# Altium footprint library components.PcbLib: 14 footprints
Each footprint in its own frame and in the unit in brackets; x right, y up, seen from the top. Pads: shape width x height; smd on the part's side, far side on the other; paste and mask are expansions set on the pad; w line width, h text height; cw(c..) or ccw(c..) is an arc to the next point about the centre after c.
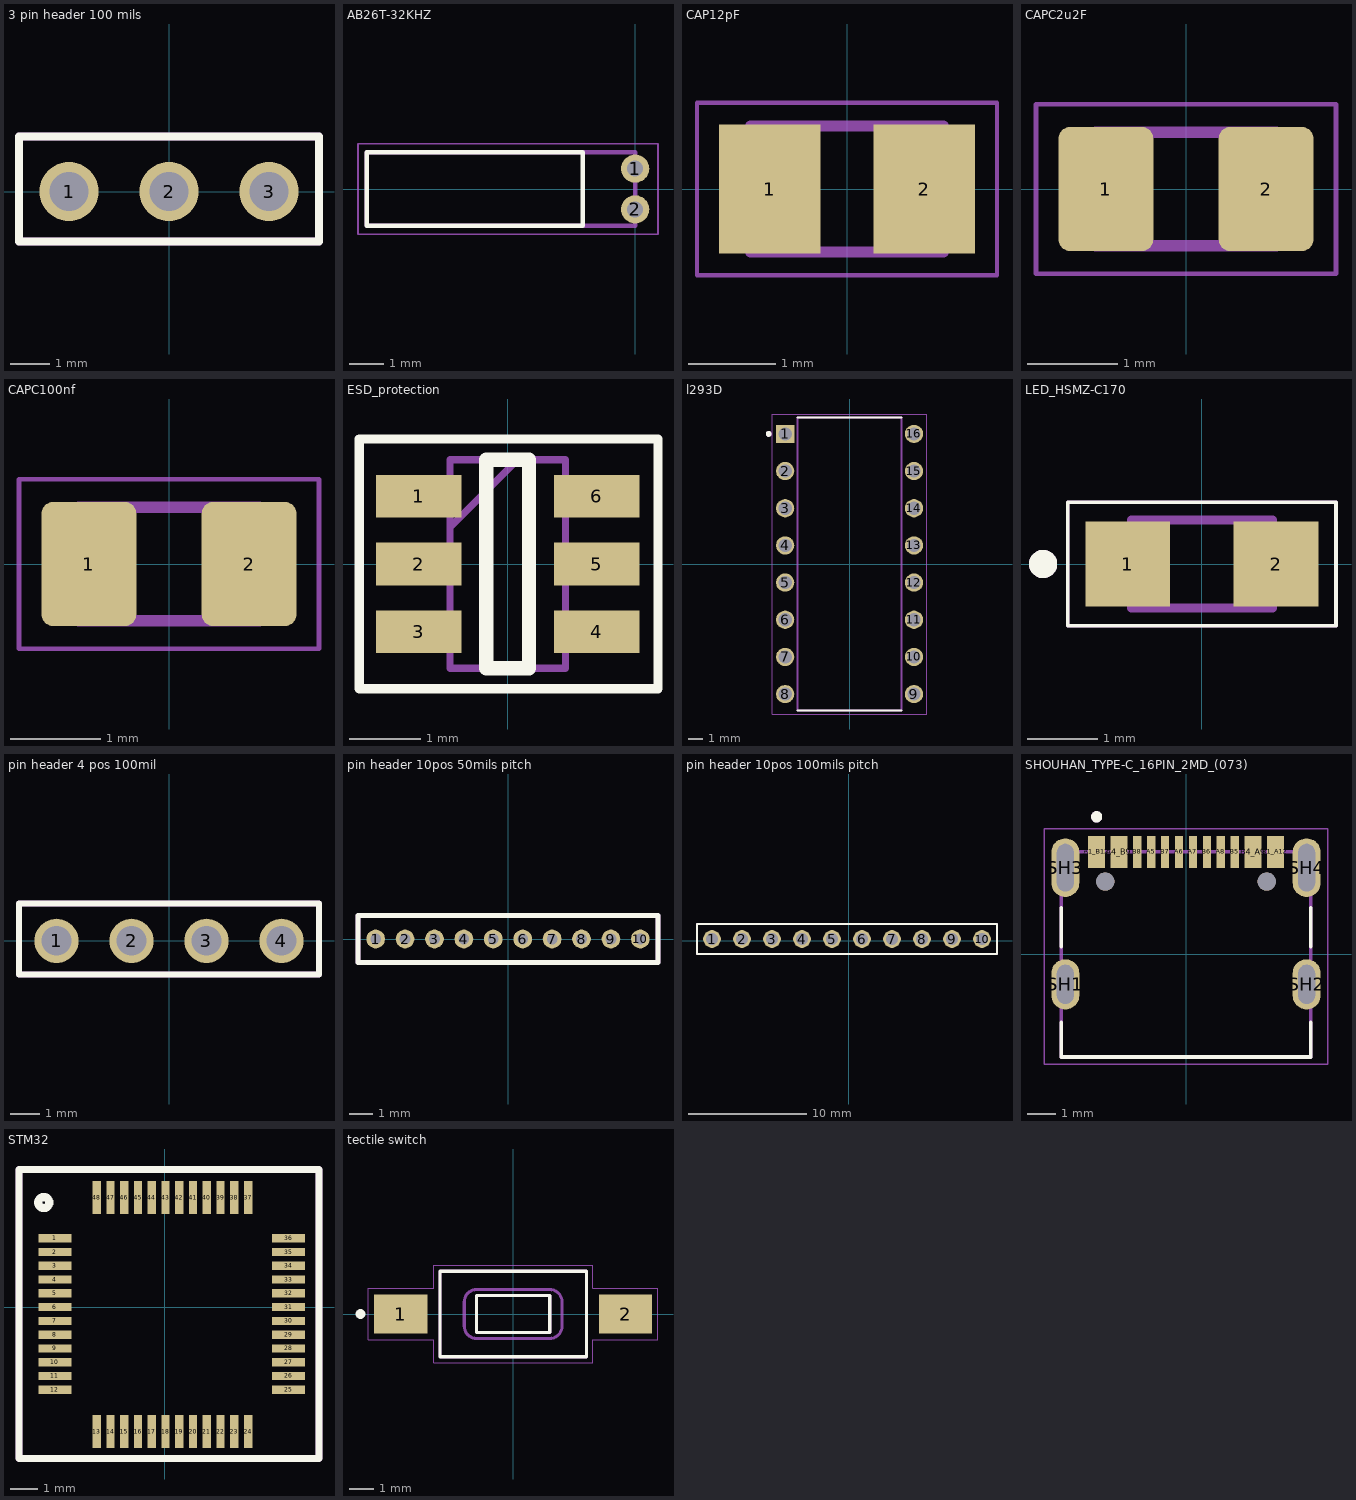
[diagram p0: the footprints below, top view; thin cyan lines are the x and y axes]

## 3 pin header 100 mils [mm]
pads (3):
  round 1.5 hole 1 mask+0.3: 1(-2.54,0) 2(0,0) 3(2.54,0)
Top Overlay:
  lines w0.2: -3.81,-1.27 -3.81,1.397 3.81,1.397 3.81,-1.27 -3.81,-1.27
Mechanical 13:
  lines w0.2: -3.81,-1.27 3.81,-1.27 3.81,1.397 -3.81,1.397 -3.81,-1.27
3D body "M20-9990346--3DModel-STEP-56544.STEP": height 8.74, standoff -3, extent -3.81,-1.27 3.81,1.27

## AB26T-32KHZ [mm]
height 2.1
pads (2):
  round 0.81 hole 0.46 mask+0.102: 1(0,0.585) 2(0,-0.585)
Top Overlay:
  lines w0.127: -7.7,-1.05 -1.5,-1.05 -1.5,1.05 -7.7,1.05 -7.7,-1.05
Mechanical 13:
  lines w0.127: -7.7,-1.05 0,-1.05 0,1.05 -7.7,1.05 -7.7,-1.05
Mechanical 15:
  lines w0.05: -7.95,-1.3 0.655,-1.3 0.655,1.3 -7.95,1.3 -7.95,-1.3
3D body "step_temp.STEP": height 2.1, standoff -3.78, extent -7.7,-1.05 0.129,1.05

## CAP12pF [mm]
pads (2):
  rect 1.16x1.47 smd: 1(-0.88,0) 2(0.88,0)
Mechanical 13:
  lines w0.127: -1.1,-0.72 -1.1,0.72 1.1,0.72 1.1,-0.72 -1.1,-0.72
Mechanical 15:
  lines w0.05: -1.713,-0.983 -1.713,0.983 1.713,0.983 1.713,-0.983 -1.713,-0.983
3D body "step_temp.STEP": height 0.94, standoff 0, extent -1.005,-0.625 1.005,0.625

## CAPC2u2F [mm]
pads (2):
  rrect25% 1.05x1.38 smd paste+0 mask+0.102: 1(-0.888,0) 2(0.888,0)
Mechanical 13:
  lines w0.127: -1,-0.63 -1,0.63 1,0.63 1,-0.63 -1,-0.63
Mechanical 15:
  lines w0.05: -1.663,-0.94 -1.663,0.94 1.663,0.94 1.663,-0.94 -1.663,-0.94
3D body "step_temp.STEP": height 1.35, standoff 0, extent -1,-0.625 1,0.625

## CAPC100nf [mm]
pads (2):
  rrect25% 1.05x1.38 smd: 1(-0.888,0) 2(0.888,0)
Mechanical 13:
  lines w0.127: -1,-0.63 1,-0.63 1,0.63 -1,0.63 -1,-0.63
Mechanical 15:
  lines w0.05: -1.663,-0.94 1.663,-0.94 1.663,0.94 -1.663,0.94 -1.663,-0.94
3D body "step_temp.STEP": height 0.95, standoff 0, extent -1,-0.625 1,0.625

## ESD_protection [mm]
pads (6):
  rect 1.2x0.6 smd: 1(-1.25,0.95) 2(-1.25,0) 3(-1.25,-0.95) 4(1.25,-0.95) 5(1.25,0) 6(1.25,0.95)
Top Overlay:
  lines w0.127: -2.083,-1.75 -2.083,1.751 2.108,1.751 2.108,-1.75 -2.083,-1.75
  lines w0.2: -0.3,-1.462 0.3,-1.462 0.3,1.462 -0.3,1.462 -0.3,-1.462
Mechanical 13:
  lines w0.05: -2.1,-1.775 2.1,-1.775 2.1,1.775 -2.1,1.775 -2.1,-1.775
  lines w0.1: -0.812,0.512 0.138,1.462 ; -0.812,-1.462 0.812,-1.462 0.812,1.462 -0.812,1.462 -0.812,-1.462
3D body "step_temp.STEP": height 1.42, standoff -0.03, extent -1.4,-1.462 1.4,1.462

## l293D [mm]
height 5.1
pads (16):
  rect 1.25x1.25 / inner round 1.25 / far side rect 1.25x1.25 hole 0.9: 1(-4.4,8.89)
  round 1.25 hole 0.9: 2(-4.4,6.35) 3(-4.4,3.81) 4(-4.4,1.27) 5(-4.4,-1.27) 6(-4.4,-3.81) 7(-4.4,-6.35) 8(-4.4,-8.89) 9(4.4,-8.89) 10(4.4,-6.35) 11(4.4,-3.81) 12(4.4,-1.27) 13(4.4,1.27) 14(4.4,3.81) 15(4.4,6.35) 16(4.4,8.89)
Top Overlay:
  circle w0.2: c-5.525,8.89 r0.1
  lines w0.127: -3.55,-10 3.55,-10 ; -3.55,10 3.55,10
Mechanical 13:
  circle w0.2: c-5.525,8.89 r0.1
  lines w0.127: -3.55,-10 -3.55,10 3.55,10 3.55,-10 -3.55,-10
Mechanical 15:
  lines w0.05: -5.275,-10.25 -5.275,10.25 5.275,10.25 5.275,-10.25 -5.275,-10.25
3D body "step_temp.STEP": height 5.1, standoff -3.3, extent -4.62,-10 4.62,10

## LED_HSMZ-C170 [mm]
height 0.8
pads (2):
  rect 1.2x1.2 smd: 1(-1.05,0) 2(1.05,0)
Top Overlay:
  circle w0.2: c-2.25,0 r0.1
  lines w0.05: -1.9,-0.875 1.9,-0.875 1.9,0.875 -1.9,0.875 -1.9,-0.875
Mechanical 13:
  circle w0.2: c-2.25,0 r0.1
  lines w0.127: -1,-0.625 -1,0.625 1,0.625 1,-0.625 -1,-0.625
Mechanical 15:
  lines w0.05: -1.9,-0.875 -1.9,0.875 1.9,0.875 1.9,-0.875 -1.9,-0.875
3D body "step_temp.STEP": height 0.8, standoff 0, extent -1,-0.625 1,0.625

## pin header 4 pos 100mil [mm]
pads (4):
  round 1.5 hole 1 mask+0.3: 1(-3.81,0) 2(-1.27,0) 3(1.27,0) 4(3.81,0)
Top Overlay:
  lines w0.2: -5.08,-1.143 5.08,-1.143 5.08,1.27 -5.08,1.27 -5.08,-1.143
Mechanical 13:
  lines w0.2: -5.08,-1.143 -5.08,1.27 5.08,1.27 5.08,-1.143 -5.08,-1.143
3D body "m20-9730446.stp": height 10, standoff -2.6, extent -5.08,-1.27 5.08,1.27

## pin header 10pos 50mils pitch [mm]
pads (10):
  round 0.81 hole 0.46 mask+0.102: 1(-5.715,0) 2(-4.445,0) 3(-3.175,0) 4(-1.905,0) 5(-0.635,0) 6(0.635,0) 7(1.905,0) 8(3.175,0) 9(4.445,0) 10(5.715,0)
Top Overlay:
  lines w0.2: -6.477,-1.016 -6.477,-0.508 -6.477,0.508 -6.477,1.016 6.477,1.016 6.477,0.508 6.477,-0.508 6.477,-1.016 -6.477,-1.016
Mechanical 13:
  lines w0.2: -6.477,-1.016 -6.477,1.016 6.477,1.016 6.477,-1.016 -6.477,-1.016

## pin header 10pos 100mils pitch [mm]
pads (10):
  round 1.5 hole 1 mask+0.3: 1(-11.557,0.127) 2(-9.017,0.127) 3(-6.477,0.127) 4(-3.937,0.127) 5(-1.397,0.127) 6(1.143,0.127) 7(3.683,0.127) 8(6.223,0.127) 9(8.763,0.127) 10(11.303,0.127)
Top Overlay:
  lines w0.2: -12.827,-1.143 -12.827,1.397 12.573,1.397 12.573,-1.143 -12.827,-1.143
Mechanical 13:
  lines w0.2: -12.827,-1.143 12.573,-1.143 12.573,1.397 -12.827,1.397 -12.827,-1.143
3D body "TSW-110-06-S-S.stp": height 5.21, standoff -2.41, extent -12.954,-1.143 12.573,1.397

## SHOUHAN_TYPE-C_16PIN_2MD_(073) [mm]
height 3.16
pads (18):
  rect 0.6x1.15 smd paste+0 mask+0: A1_B12(-3.2,3.67) A4_B9(-2.4,3.67) B1_A12(3.2,3.67) B4_A9(2.4,3.67)
  rect 0.3x1.15 smd paste+0 mask+0: A5(-1.25,3.67) A6(-0.25,3.67) A7(0.25,3.67) A8(1.25,3.67) B5(1.75,3.67) B6(0.75,3.67) B7(-0.75,3.67) B8(-1.75,3.67)
  oval 1x1.8 hole 0.6 slot 1.4 at 90 deg mask+0.102: SH1(-4.32,-1.075) SH2(4.32,-1.075)
  oval 1x2.1 hole 0.6 slot 1.7 at 90 deg mask+0.102: SH3(-4.32,3.105) SH4(4.32,3.105)
  round 0.65 hole 0.65 unplated mask+0: ""(-2.89,2.605) ""(2.89,2.605)
Top Overlay:
  circle w0.2: c-3.2,4.925 r0.1
  lines w0.127: -4.47,-2.425 -4.47,-3.675 4.47,-3.675 4.47,-2.425 ; -4.47,0.275 -4.47,1.675 ; 4.47,0.275 4.47,1.675
Top Solder:
  region: 2.75,3.055 2.05,3.055 2.05,4.295 2.75,4.295
  region: -2.05,3.055 -2.75,3.055 -2.75,4.295 -2.05,4.295
  region: 3.55,3.055 2.85,3.055 2.85,4.295 3.55,4.295
  region: -2.85,3.055 -3.55,3.055 -3.55,4.295 -2.85,4.295
  region: 0.45,3.055 0.05,3.055 0.05,4.295 0.45,4.295
  region: -0.05,3.055 -0.45,3.055 -0.45,4.295 -0.05,4.295
  region: 0.95,3.055 0.55,3.055 0.55,4.295 0.95,4.295
  region: 1.45,3.055 1.05,3.055 1.05,4.295 1.45,4.295
  region: 1.95,3.055 1.55,3.055 1.55,4.295 1.95,4.295
  region: -0.55,3.055 -0.95,3.055 -0.95,4.295 -0.55,4.295
  region: -1.05,3.055 -1.45,3.055 -1.45,4.295 -1.05,4.295
  region: -1.55,3.055 -1.95,3.055 -1.95,4.295 -1.55,4.295
Mechanical 13:
  circle w0.2: c-3.2,4.925 r0.1
  lines w0.127: -4.47,-3.675 -4.47,3.675 4.47,3.675 4.47,-3.675 -4.47,-3.675
Mechanical 15:
  lines w0.05: -5.07,-3.925 5.07,-3.925 5.07,4.495 -5.07,4.495 -5.07,-3.925
3D body "step_temp.STEP": height 3.26, standoff -0.9, extent -4.47,-3.675 4.47,3.975

## STM32 [mm]
pads (48):
  rect 1.2x0.3 smd mask+0.102: 1(-4,2.5) 2(-4,2) 3(-4,1.5) 4(-4,1) 5(-4,0.5) 6(-4,0) 7(-4,-0.5) 8(-4,-1) 9(-4,-1.5) 10(-4,-2) 11(-4,-2.5) 12(-4,-3) 25(4.5,-3) 26(4.5,-2.5) 27(4.5,-2) 28(4.5,-1.5) 29(4.5,-1) 30(4.5,-0.5) 31(4.5,0) 32(4.5,0.5) 33(4.5,1) 34(4.5,1.5) 35(4.5,2) 36(4.5,2.5)
  rect 0.3x1.2 smd mask+0.102: 13(-2.475,-4.525) 14(-1.975,-4.525) 15(-1.475,-4.525) 16(-0.975,-4.525) 17(-0.475,-4.525) 18(0.025,-4.525) 19(0.525,-4.525) 20(1.025,-4.525) 21(1.525,-4.525) 22(2.025,-4.525) 23(2.525,-4.525) 24(3.025,-4.525) 37(3.025,3.975) 38(2.525,3.975) 39(2.025,3.975) 40(1.525,3.975) 41(1.025,3.975) 42(0.525,3.975) 43(0.025,3.975) 44(-0.475,3.975) 45(-0.975,3.975) 46(-1.475,3.975) 47(-1.975,3.975) 48(-2.475,3.975)
Top Overlay:
  circle w0.3: c-4.4,3.8 r0.2
  lines w0.254: -4.7,5 5.6,5 5.6,-5.5 -5.3,-5.5 -5.3,5 -4.5,5
Mechanical 2:
  lines w0.254: -5.3,-5.5 -5.3,5 5.6,5 5.6,-5.5 -5.3,-5.5
  text ".Designator" at -3.5,-0.167 h0.7
3D body "STM32F103C8T6--3DModel-STEP-510211.STEP": height 1.6, standoff 0, extent -4.25,-4.75 4.75,4.25

## tectile switch [mm]
pads (2):
  rect 2.18x1.6 smd paste+0 mask+0.102: 1(-4.6,0) 2(4.6,0)
Top Overlay:
  circle w0.2: c-6.25,0 r0.1
  lines w0.127: -3,-1.75 -3,1.75 3,1.75 3,-1.75 -3,-1.75 ; -1.5,-0.75 -1.5,0.75 1.5,0.75 1.5,-0.75 -1.5,-0.75
Mechanical 13:
  circle w0.2: c-4.6,0 r0.1
  lines w0.127: -3,-1.75 -3,1.75 3,1.75 3,-1.75 -3,-1.75 ; -2,-0.5 ccw(c-1.5,-0.5) -1.5,-1 1.5,-1 ccw(c1.5,-0.5) 2,-0.5 2,0.5 ccw(c1.5,0.5) 1.5,1 -1.5,1 ccw(c-1.5,0.5) -2,0.5 -2,-0.5 ; -1.5,-0.75 -1.5,0.75 1.5,0.75 1.5,-0.75 -1.5,-0.75
Mechanical 15:
  lines w0.05: -5.93,-1.05 -3.25,-1.05 -3.25,-2 3.25,-2 3.25,-1.05 5.93,-1.05 5.93,1.05 3.25,1.05 3.25,2 -3.25,2 -3.25,1.05 -5.93,1.05 -5.93,-1.05
3D body "step_temp.STEP": height 4.39, standoff -0.02, extent -4.985,-1.75 4.985,1.75